# EAGLE library part 2636-1103/0020-0000 (library con-wago_2636)
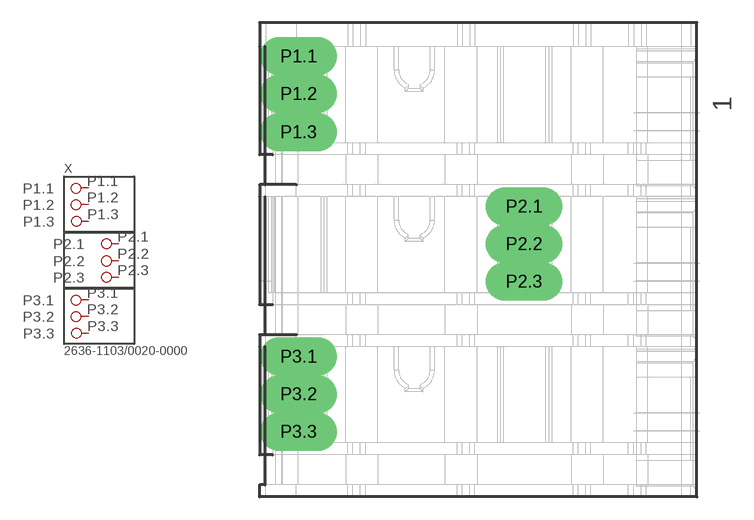
[diagram p2: symbol with the pads of P-2636-1103/0020-0000; footprint P-2636-1103/0020-0000]

Designator prefix X

## 2636-1103/0020-0000  [P-2636-1103/0020-0000]
P1.1  P1.1
P1.2  P1.2
P1.3  P1.3
P2.1  P2.1
P2.2  P2.2
P2.3  P2.3
P3.1  P3.1
P3.2  P3.2
P3.3  P3.3

## Footprint P-2636-1103/0020-0000 (pad centres in mm)
drill 1.7 pad 1.778 long: P1.1 -15,-0.65; P1.2 -15,-3.15; P1.3 -15,-5.7; P2.1 0,-10.65; P2.2 0,-13.15; P2.3 0,-15.65; P3.1 -15,-20.65; P3.2 -15,-23.15; P3.3 -15,-25.65